# Altium schematic symbol library Telink.SchLib: 3 symbols
Pins are listed as number, name and electrical type; pins without a type are passive.

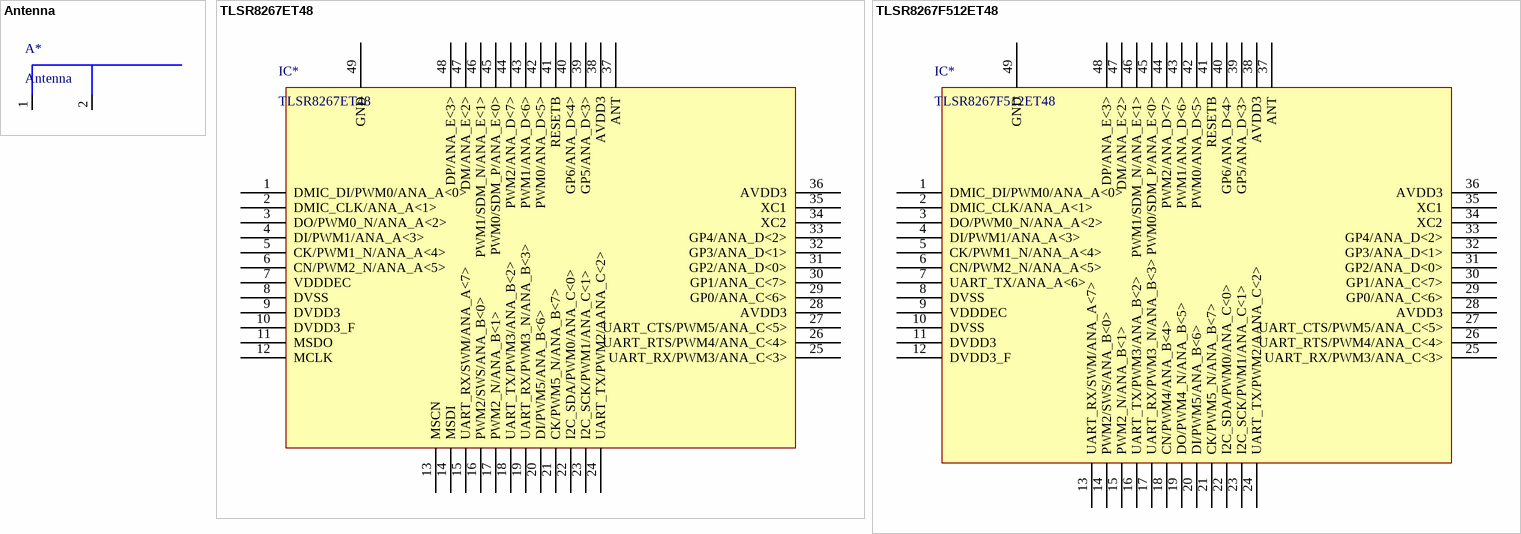
[diagram p0: symbols Antenna to TLSR8267F512ET48]

## Antenna
designator A*
pins: 1 Antenna, 2 GND

## TLSR8267ET48
designator IC*
footprint QFN48 (Footprint not found)
pins: 1 DMIC_DI/PWM0/ANA_A<0>, 2 DMIC_CLK/ANA_A<1>, 3 DO/PWM0_N/ANA_A<2>, 4 DI/PWM1/ANA_A<3>, 5 CK/PWM1_N/ANA_A<4>, 6 CN/PWM2_N/ANA_A<5>, 7 VDDDEC, 8 DVSS, 9 DVDD3, 10 DVDD3_F, 11 MSDO, 12 MCLK, 13 MSCN, 14 MSDI, 15 UART_RX/SWM/ANA_A<7>, 16 PWM2/SWS/ANA_B<0>, 17 PWM2_N/ANA_B<1>, 18 UART_TX/PWM3/ANA_B<2>, 19 UART_RX/PWM3_N/ANA_B<3>, 20 DI/PWM5/ANA_B<6>, 21 CK/PWM5_N/ANA_B<7>, 22 I2C_SDA/PWM0/ANA_C<0>, 23 I2C_SCK/PWM1/ANA_C<1>, 24 UART_TX/PWM2/AANA_C<2>, 25 UART_RX/PWM3/ANA_C<3>, 26 UART_RTS/PWM4/ANA_C<4>, 27 UART_CTS/PWM5/ANA_C<5>, 28 AVDD3, 29 GP0/ANA_C<6>, 30 GP1/ANA_C<7>, 31 GP2/ANA_D<0>, 32 GP3/ANA_D<1>, 33 GP4/ANA_D<2>, 34 XC2, 35 XC1, 36 AVDD3, 37 ANT, 38 AVDD3, 39 GP5/ANA_D<3>, 40 GP6/ANA_D<4>, 41 RESETB, 42 PWM0/ANA_D<5>, 43 PWM1/ANA_D<6>, 44 PWM2/ANA_D<7>, 45 PWM0/SDM_P/ANA_E<0>, 46 PWM1/SDM_N/ANA_E<1>, 47 DM/ANA_E<2>, 48 DP/ANA_E<3>, 49 GND

## TLSR8267F512ET48
designator IC*
footprint QFN48 (Footprint not found)
pins: 1 DMIC_DI/PWM0/ANA_A<0>, 2 DMIC_CLK/ANA_A<1>, 3 DO/PWM0_N/ANA_A<2>, 4 DI/PWM1/ANA_A<3>, 5 CK/PWM1_N/ANA_A<4>, 6 CN/PWM2_N/ANA_A<5>, 7 UART_TX/ANA_A<6>, 8 DVSS, 9 VDDDEC, 10 DVSS, 11 DVDD3, 12 DVDD3_F, 13 UART_RX/SWM/ANA_A<7>, 14 PWM2/SWS/ANA_B<0>, 15 PWM2_N/ANA_B<1>, 16 UART_TX/PWM3/ANA_B<2>, 17 UART_RX/PWM3_N/ANA_B<3>, 18 CN/PWM4/ANA_B<4>, 19 DO/PWM4_N/ANA_B<5>, 20 DI/PWM5/ANA_B<6>, 21 CK/PWM5_N/ANA_B<7>, 22 I2C_SDA/PWM0/ANA_C<0>, 23 I2C_SCK/PWM1/ANA_C<1>, 24 UART_TX/PWM2/AANA_C<2>, 25 UART_RX/PWM3/ANA_C<3>, 26 UART_RTS/PWM4/ANA_C<4>, 27 UART_CTS/PWM5/ANA_C<5>, 28 AVDD3, 29 GP0/ANA_C<6>, 30 GP1/ANA_C<7>, 31 GP2/ANA_D<0>, 32 GP3/ANA_D<1>, 33 GP4/ANA_D<2>, 34 XC2, 35 XC1, 36 AVDD3, 37 ANT, 38 AVDD3, 39 GP5/ANA_D<3>, 40 GP6/ANA_D<4>, 41 RESETB, 42 PWM0/ANA_D<5>, 43 PWM1/ANA_D<6>, 44 PWM2/ANA_D<7>, 45 PWM0/SDM_P/ANA_E<0>, 46 PWM1/SDM_N/ANA_E<1>, 47 DM/ANA_E<2>, 48 DP/ANA_E<3>, 49 GND